# Altium schematic symbol library TPD4E02B04QDQARQ1.Schlib: 1 symbol
Pins are listed as number, name and electrical type; pins without a type are passive.

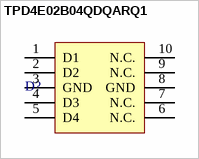
[diagram p0: symbol TPD4E02B04QDQARQ1]

## TPD4E02B04QDQARQ1
designator D?
4 Channel ESD Protection Diodes for SuperSpeed (Up to 6 Gbps) Interface
pins: 1 D1, 2 D2, 3 GND, 4 D3, 5 D4, 6 N.C., 7 N.C., 8 GND, 9 N.C., 10 N.C.